# Altium footprint library te.PcbLib: 7 footprints
Each footprint in its own frame and in the unit in brackets; x right, y up, seen from the top. Pads: shape width x height; smd on the part's side, far side on the other; paste and mask are expansions set on the pad; w line width, h text height; cw(c..) or ccw(c..) is an arc to the next point about the centre after c.
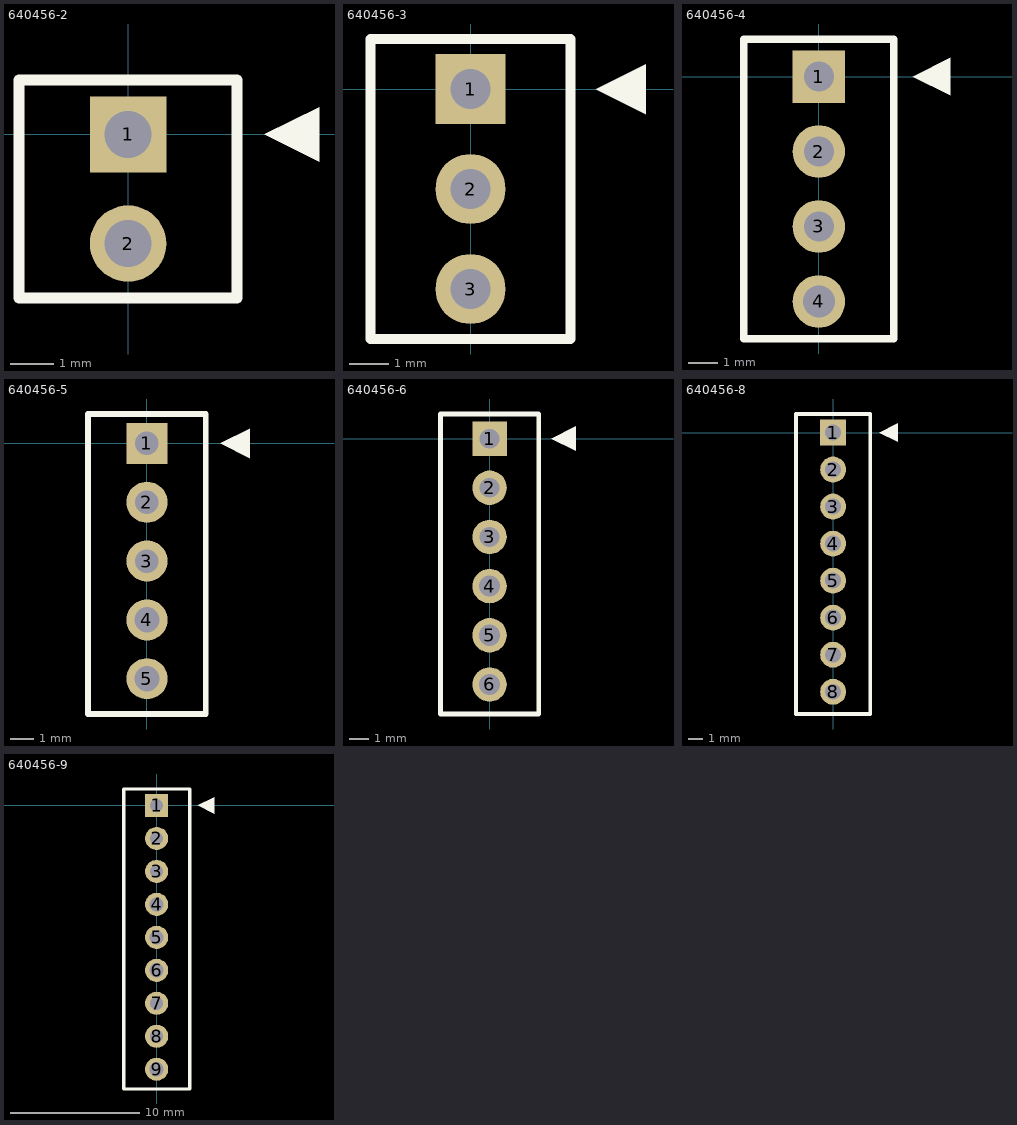
[diagram p0: the footprints below, top view; thin cyan lines are the x and y axes]

## 640456-2 [mil] "Pin Header, 2"
pads (2):
  rect 70x70 hole 43: 1(0,0)
  round 70 hole 43: 2(0,-100)
Top Overlay:
  region: 175,-25 175,25 125,0
  lines w10: -100,-150 100,-150 100,50 -100,50 -100,-150

## 640456-3 [mil] "Pin Header, 3"
pads (3):
  rect 70x70 hole 40: 1(0,0)
  round 70 hole 40: 2(0,-100) 3(0,-200)
Top Overlay:
  region: 175,-25 175,25 125,0
  lines w10: -100,-250 100,-250 100,50 -100,50 -100,-250

## 640456-4 [mil] "Pin Header, 4"
pads (4):
  rect 70x70 hole 40: 1(0,0)
  round 70 hole 40: 2(0,-100) 3(0,-200)
  round 70 hole 43: 4(0,-300)
Top Overlay:
  region: 175,-25 175,25 125,0
  lines w10: -100,-350 -100,50 100,50 100,-350 -100,-350

## 640456-5 [mil] "Pin Header, 5"
pads (5):
  rect 70x70 hole 40: 1(0,0)
  round 70 hole 40: 2(0,-100) 3(0,-200)
  round 70 hole 43: 4(0,-300) 5(0,-400)
Top Overlay:
  region: 175,-25 175,25 125,0
  lines w10: -100,-460 -100,50 100,50 100,-460 -100,-460

## 640456-6 [mil] "Pin Header, 6"
pads (6):
  rect 70x70 hole 40: 1(0,0)
  round 70 hole 40: 2(0,-100) 3(0,-200)
  round 70 hole 43: 4(0,-300) 5(0,-400) 6(0,-500)
Top Overlay:
  region: 175,-25 175,25 125,0
  lines w10: -100,-560 100,-560 100,50 -100,50 -100,-560

## 640456-8 [mil] "Pin Header, 8"
pads (8):
  rect 70x70 hole 43: 1(0,0)
  round 70 hole 43: 2(0,-100) 3(0,-200) 4(0,-300) 5(0,-400) 6(0,-500) 7(0,-600) 8(0,-700)
Top Overlay:
  region: 175,-25 175,25 125,0
  lines w10: -100,-760 -100,50 100,50 100,-760 -100,-760

## 640456-9 [mil] "Pin Header, 9"
pads (9):
  rect 70x70 hole 40: 1(0,0)
  round 70 hole 40: 2(0,-100) 3(0,-200) 7(0,-600) 8(0,-700)
  round 70 hole 43: 4(0,-300) 5(0,-400) 6(0,-500) 9(0,-800)
Top Overlay:
  region: 175,-25 175,25 125,0
  lines w10: -100,-860 -100,50 100,50 100,-860 -100,-860